# Altium footprint library Screw-M3.PcbLib: 37 footprints (part 1 of 3)
Each footprint in its own frame and in the unit in brackets; x right, y up, seen from the top. Pads: shape width x height; smd on the part's side, far side on the other; paste and mask are expansions set on the pad; w line width, h text height; cw(c..) or ccw(c..) is an arc to the next point about the centre after c.
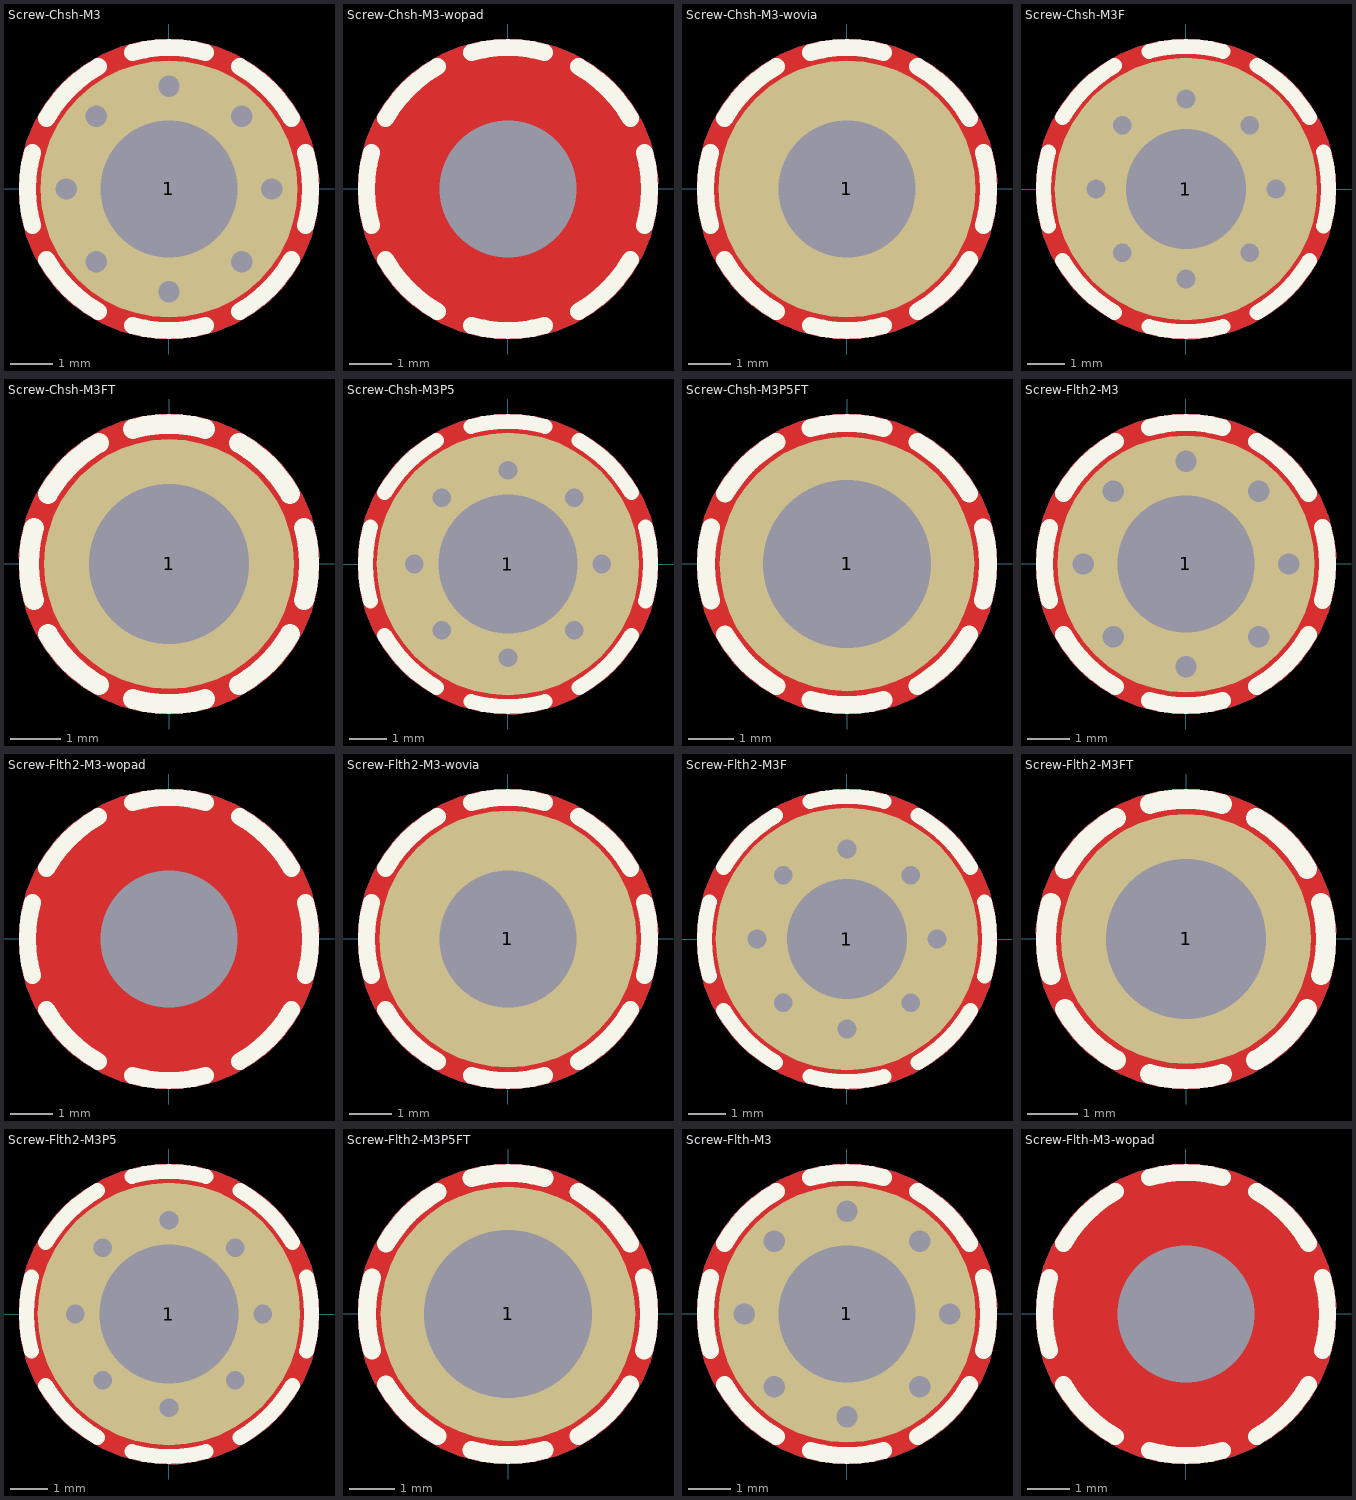
[diagram p0: the footprints below, top view; thin cyan lines are the x and y axes]

## Screw-Chsh-M3 [mm] "Screw, hole diameter 3.2mm, PanHead 6mm"
pads (1):
  round 6 / inner round 3.5 / far side round 6 hole 3.2 mask+0.1: 1(0,0)
via -1.697,-1.697 diameter 0.8 hole 0.5
via 1.697,1.697 diameter 0.8 hole 0.5
via -2.4,0 diameter 0.8 hole 0.5
via 2.4,0 diameter 0.8 hole 0.5
via -1.697,1.697 diameter 0.8 hole 0.5
via 1.697,-1.697 diameter 0.8 hole 0.5
via 0,-2.4 diameter 0.8 hole 0.5
via 0,2.4 diameter 0.8 hole 0.5
Top Layer:
  pour cut-out: 0,3.5 -0.229,3.5 -0.684,3.44 -1.127,3.321 -1.551,3.146 -1.949,2.916 -2.313,2.637 -2.637,2.313 -2.916,1.949 -3.146,1.551 -3.321,1.127 -3.44,0.684 -3.5,0.229 -3.5,0 -3.5,-0.229 -3.44,-0.684 -3.321,-1.127 -3.146,-1.551 -2.916,-1.949 -2.637,-2.313 -2.313,-2.637 -1.949,-2.916 -1.551,-3.146 -1.127,-3.321 -0.684,-3.44 -0.229,-3.5 0,-3.5 0.229,-3.5 0.684,-3.44 1.127,-3.321 1.551,-3.146 1.949,-2.916 2.313,-2.637 2.637,-2.313 2.916,-1.949 3.146,-1.551 3.321,-1.127 3.44,-0.684 3.5,-0.229 3.5,0 3.5,0.229 3.44,0.684 3.321,1.127 3.146,1.551 2.916,1.949 2.637,2.313 2.313,2.637 1.949,2.916 1.551,3.146 1.127,3.321 0.684,3.44 0.229,3.5
Bottom Layer:
  pour cut-out: 0,3.5 -0.229,3.5 -0.684,3.44 -1.127,3.321 -1.551,3.146 -1.949,2.916 -2.313,2.637 -2.637,2.313 -2.916,1.949 -3.146,1.551 -3.321,1.127 -3.44,0.684 -3.5,0.229 -3.5,0 -3.5,-0.229 -3.44,-0.684 -3.321,-1.127 -3.146,-1.551 -2.916,-1.949 -2.637,-2.313 -2.313,-2.637 -1.949,-2.916 -1.551,-3.146 -1.127,-3.321 -0.684,-3.44 -0.229,-3.5 0,-3.5 0.229,-3.5 0.684,-3.44 1.127,-3.321 1.551,-3.146 1.949,-2.916 2.313,-2.637 2.637,-2.313 2.916,-1.949 3.146,-1.551 3.321,-1.127 3.44,-0.684 3.5,-0.229 3.5,0 3.5,0.229 3.44,0.684 3.321,1.127 3.146,1.551 2.916,1.949 2.637,2.313 2.313,2.637 1.949,2.916 1.551,3.146 1.127,3.321 0.684,3.44 0.229,3.5
Top Overlay:
  lines w0.4: -3.188,-0.854 cw(c0,0) -3.188,0.854 ; -2.858,-1.65 ccw(c0,0) -1.65,-2.858 ; -2.858,1.65 cw(c0,0) -1.65,2.858 ; -0.854,-3.188 ccw(c0,0) 0.854,-3.188 ; -0.854,3.188 cw(c0,0) 0.854,3.188 ; 1.65,-2.858 ccw(c0,0) 2.858,-1.65 ; 1.65,2.858 cw(c0,0) 2.858,1.65 ; 3.188,-0.854 ccw(c0,0) 3.188,0.854
3D body "SCRW_CHSH_PHLIPS_M3X5.stp": height 2.53, standoff -4.8, extent -3,-3 3,3

## Screw-Chsh-M3-wopad [mm] "Screw, hole diameter 3.2mm, PanHead 0mm"
pads (1):
  round 0 hole 3.2 unplated mask+0.1: 1(0,0)
Top Layer:
  pour cut-out: 0,3.5 -0.229,3.5 -0.684,3.44 -1.127,3.321 -1.551,3.146 -1.949,2.916 -2.313,2.637 -2.637,2.313 -2.916,1.949 -3.146,1.551 -3.321,1.127 -3.44,0.684 -3.5,0.229 -3.5,0 -3.5,-0.229 -3.44,-0.684 -3.321,-1.127 -3.146,-1.551 -2.916,-1.949 -2.637,-2.313 -2.313,-2.637 -1.949,-2.916 -1.551,-3.146 -1.127,-3.321 -0.684,-3.44 -0.229,-3.5 0,-3.5 0.229,-3.5 0.684,-3.44 1.127,-3.321 1.551,-3.146 1.949,-2.916 2.313,-2.637 2.637,-2.313 2.916,-1.949 3.146,-1.551 3.321,-1.127 3.44,-0.684 3.5,-0.229 3.5,0 3.5,0.229 3.44,0.684 3.321,1.127 3.146,1.551 2.916,1.949 2.637,2.313 2.313,2.637 1.949,2.916 1.551,3.146 1.127,3.321 0.684,3.44 0.229,3.5
Bottom Layer:
  pour cut-out: 0,3.5 -0.229,3.5 -0.684,3.44 -1.127,3.321 -1.551,3.146 -1.949,2.916 -2.313,2.637 -2.637,2.313 -2.916,1.949 -3.146,1.551 -3.321,1.127 -3.44,0.684 -3.5,0.229 -3.5,0 -3.5,-0.229 -3.44,-0.684 -3.321,-1.127 -3.146,-1.551 -2.916,-1.949 -2.637,-2.313 -2.313,-2.637 -1.949,-2.916 -1.551,-3.146 -1.127,-3.321 -0.684,-3.44 -0.229,-3.5 0,-3.5 0.229,-3.5 0.684,-3.44 1.127,-3.321 1.551,-3.146 1.949,-2.916 2.313,-2.637 2.637,-2.313 2.916,-1.949 3.146,-1.551 3.321,-1.127 3.44,-0.684 3.5,-0.229 3.5,0 3.5,0.229 3.44,0.684 3.321,1.127 3.146,1.551 2.916,1.949 2.637,2.313 2.313,2.637 1.949,2.916 1.551,3.146 1.127,3.321 0.684,3.44 0.229,3.5
Top Overlay:
  lines w0.4: -3.188,-0.854 cw(c0,0) -3.188,0.854 ; -2.858,-1.65 ccw(c0,0) -1.65,-2.858 ; -2.858,1.65 cw(c0,0) -1.65,2.858 ; -0.854,-3.188 ccw(c0,0) 0.854,-3.188 ; -0.854,3.188 cw(c0,0) 0.854,3.188 ; 1.65,-2.858 ccw(c0,0) 2.858,-1.65 ; 1.65,2.858 cw(c0,0) 2.858,1.65 ; 3.188,-0.854 ccw(c0,0) 3.188,0.854
3D body "SCRW_CHSH_PHLIPS_M3X5.stp": height 2.53, standoff -4.8, extent -3,-3 3,3

## Screw-Chsh-M3-wovia [mm] "Screw, hole diameter 3.2mm, PanHead 6mm"
pads (1):
  round 6 / inner round 3.5 / far side round 6 hole 3.2 mask+0.1: 1(0,0)
Top Layer:
  pour cut-out: 0,3.5 -0.229,3.5 -0.684,3.44 -1.127,3.321 -1.551,3.146 -1.949,2.916 -2.313,2.637 -2.637,2.313 -2.916,1.949 -3.146,1.551 -3.321,1.127 -3.44,0.684 -3.5,0.229 -3.5,0 -3.5,-0.229 -3.44,-0.684 -3.321,-1.127 -3.146,-1.551 -2.916,-1.949 -2.637,-2.313 -2.313,-2.637 -1.949,-2.916 -1.551,-3.146 -1.127,-3.321 -0.684,-3.44 -0.229,-3.5 0,-3.5 0.229,-3.5 0.684,-3.44 1.127,-3.321 1.551,-3.146 1.949,-2.916 2.313,-2.637 2.637,-2.313 2.916,-1.949 3.146,-1.551 3.321,-1.127 3.44,-0.684 3.5,-0.229 3.5,0 3.5,0.229 3.44,0.684 3.321,1.127 3.146,1.551 2.916,1.949 2.637,2.313 2.313,2.637 1.949,2.916 1.551,3.146 1.127,3.321 0.684,3.44 0.229,3.5
Bottom Layer:
  pour cut-out: 0,3.5 -0.229,3.5 -0.684,3.44 -1.127,3.321 -1.551,3.146 -1.949,2.916 -2.313,2.637 -2.637,2.313 -2.916,1.949 -3.146,1.551 -3.321,1.127 -3.44,0.684 -3.5,0.229 -3.5,0 -3.5,-0.229 -3.44,-0.684 -3.321,-1.127 -3.146,-1.551 -2.916,-1.949 -2.637,-2.313 -2.313,-2.637 -1.949,-2.916 -1.551,-3.146 -1.127,-3.321 -0.684,-3.44 -0.229,-3.5 0,-3.5 0.229,-3.5 0.684,-3.44 1.127,-3.321 1.551,-3.146 1.949,-2.916 2.313,-2.637 2.637,-2.313 2.916,-1.949 3.146,-1.551 3.321,-1.127 3.44,-0.684 3.5,-0.229 3.5,0 3.5,0.229 3.44,0.684 3.321,1.127 3.146,1.551 2.916,1.949 2.637,2.313 2.313,2.637 1.949,2.916 1.551,3.146 1.127,3.321 0.684,3.44 0.229,3.5
Top Overlay:
  lines w0.4: -3.188,-0.854 cw(c0,0) -3.188,0.854 ; -2.858,-1.65 ccw(c0,0) -1.65,-2.858 ; -2.858,1.65 cw(c0,0) -1.65,2.858 ; -0.854,-3.188 ccw(c0,0) 0.854,-3.188 ; -0.854,3.188 cw(c0,0) 0.854,3.188 ; 1.65,-2.858 ccw(c0,0) 2.858,-1.65 ; 1.65,2.858 cw(c0,0) 2.858,1.65 ; 3.188,-0.854 ccw(c0,0) 3.188,0.854
3D body "SCRW_CHSH_PHLIPS_M3X5.stp": height 2.53, standoff -4.8, extent -3,-3 3,3

## Screw-Chsh-M3F [mm] "Screw, hole diameter 3.2mm, PanHead 7mm"
pads (1):
  round 7 / inner round 3.5 / far side round 7 hole 3.2 mask+0.1: 1(0,0)
via 0,2.4 diameter 0.8 hole 0.5
via 0,-2.4 diameter 0.8 hole 0.5
via 1.697,-1.697 diameter 0.8 hole 0.5
via -1.697,1.697 diameter 0.8 hole 0.5
via 2.4,0 diameter 0.8 hole 0.5
via -2.4,0 diameter 0.8 hole 0.5
via 1.697,1.697 diameter 0.8 hole 0.5
via -1.697,-1.697 diameter 0.8 hole 0.5
Top Layer:
  pour cut-out: 0,4 -0.262,4 -0.782,3.932 -1.288,3.796 -1.773,3.595 -2.227,3.333 -2.643,3.014 -3.014,2.643 -3.333,2.227 -3.595,1.773 -3.796,1.289 -3.931,0.782 -4,0.262 -4,0 -4,-0.262 -3.931,-0.782 -3.796,-1.288 -3.595,-1.773 -3.333,-2.227 -3.014,-2.643 -2.643,-3.014 -2.227,-3.333 -1.773,-3.595 -1.288,-3.796 -0.782,-3.931 -0.262,-4 0,-4 0.262,-4 0.782,-3.932 1.289,-3.796 1.773,-3.595 2.227,-3.333 2.643,-3.014 3.014,-2.643 3.333,-2.227 3.595,-1.773 3.796,-1.289 3.932,-0.782 4,-0.262 4,0 4,0.262 3.932,0.782 3.796,1.289 3.595,1.773 3.333,2.227 3.014,2.643 2.643,3.014 2.227,3.333 1.773,3.595 1.289,3.796 0.782,3.932 0.262,4
Bottom Layer:
  pour cut-out: 0,4 -0.262,4 -0.782,3.932 -1.288,3.796 -1.773,3.595 -2.227,3.333 -2.643,3.014 -3.014,2.643 -3.333,2.227 -3.595,1.773 -3.796,1.289 -3.931,0.782 -4,0.262 -4,0 -4,-0.262 -3.931,-0.782 -3.796,-1.288 -3.595,-1.773 -3.333,-2.227 -3.014,-2.643 -2.643,-3.014 -2.227,-3.333 -1.773,-3.595 -1.288,-3.796 -0.782,-3.931 -0.262,-4 0,-4 0.262,-4 0.782,-3.932 1.289,-3.796 1.773,-3.595 2.227,-3.333 2.643,-3.014 3.014,-2.643 3.333,-2.227 3.595,-1.773 3.796,-1.289 3.932,-0.782 4,-0.262 4,0 4,0.262 3.932,0.782 3.796,1.289 3.595,1.773 3.333,2.227 3.014,2.643 2.643,3.014 2.227,3.333 1.773,3.595 1.289,3.796 0.782,3.932 0.262,4
Top Overlay:
  lines w0.4: -3.671,-0.984 cw(c0,0) -3.671,0.984 ; -3.291,-1.9 ccw(c0,0) -1.9,-3.291 ; -3.291,1.9 cw(c0,0) -1.9,3.291 ; -0.984,-3.671 ccw(c0,0) 0.984,-3.671 ; -0.984,3.671 cw(c0,0) 0.984,3.671 ; 1.9,-3.291 ccw(c0,0) 3.291,-1.9 ; 1.9,3.291 cw(c0,0) 3.291,1.9 ; 3.671,-0.984 ccw(c0,0) 3.671,0.984
3D body "SCRW_CHSH_PHLIPS_M3X5.stp": height 2.53, standoff -4.8, extent -3,-3 3,3

## Screw-Chsh-M3FT [mm] "Screw, hole diameter 3.2mm, PanHead 5mm"
pads (1):
  round 5 / inner round 3.5 / far side round 5 hole 3.2 mask+0.1: 1(0,0)
Top Layer:
  pour cut-out: 0,3 -0.197,3 -0.587,2.949 -0.966,2.847 -1.33,2.696 -1.67,2.5 -1.982,2.26 -2.26,1.982 -2.5,1.67 -2.696,1.33 -2.847,0.966 -2.949,0.587 -3,0.197 -3,0 -3,-0.197 -2.949,-0.587 -2.847,-0.966 -2.696,-1.33 -2.5,-1.67 -2.26,-1.982 -1.982,-2.26 -1.67,-2.5 -1.33,-2.696 -0.966,-2.847 -0.587,-2.949 -0.197,-3 0,-3 0.197,-3 0.587,-2.949 0.966,-2.847 1.33,-2.696 1.67,-2.5 1.982,-2.26 2.26,-1.982 2.5,-1.67 2.696,-1.33 2.847,-0.966 2.949,-0.587 3,-0.197 3,0 3,0.197 2.949,0.587 2.847,0.966 2.696,1.33 2.5,1.67 2.26,1.982 1.982,2.26 1.67,2.5 1.33,2.696 0.966,2.847 0.587,2.949 0.197,3
Bottom Layer:
  pour cut-out: 0,3 -0.197,3 -0.587,2.949 -0.966,2.847 -1.33,2.696 -1.67,2.5 -1.982,2.26 -2.26,1.982 -2.5,1.67 -2.696,1.33 -2.847,0.966 -2.949,0.587 -3,0.197 -3,0 -3,-0.197 -2.949,-0.587 -2.847,-0.966 -2.696,-1.33 -2.5,-1.67 -2.26,-1.982 -1.982,-2.26 -1.67,-2.5 -1.33,-2.696 -0.966,-2.847 -0.587,-2.949 -0.197,-3 0,-3 0.197,-3 0.587,-2.949 0.966,-2.847 1.33,-2.696 1.67,-2.5 1.982,-2.26 2.26,-1.982 2.5,-1.67 2.696,-1.33 2.847,-0.966 2.949,-0.587 3,-0.197 3,0 3,0.197 2.949,0.587 2.847,0.966 2.696,1.33 2.5,1.67 2.26,1.982 1.982,2.26 1.67,2.5 1.33,2.696 0.966,2.847 0.587,2.949 0.197,3
Top Overlay:
  lines w0.4: -2.705,-0.725 cw(c0,0) -2.705,0.725 ; -2.425,-1.4 ccw(c0,0) -1.4,-2.425 ; -2.425,1.4 cw(c0,0) -1.4,2.425 ; -0.725,-2.705 ccw(c0,0) 0.725,-2.705 ; -0.725,2.705 cw(c0,0) 0.725,2.705 ; 1.4,-2.425 ccw(c0,0) 2.425,-1.4 ; 1.4,2.425 cw(c0,0) 2.425,1.4 ; 2.705,-0.725 ccw(c0,0) 2.705,0.725
3D body "SCRW_CHSH_PHLIPS_M3X5.stp": height 2.53, standoff -4.8, extent -3,-3 3,3

## Screw-Chsh-M3P5 [mm] "Screw, hole diameter 3.7mm, PanHead 7mm"
pads (1):
  round 7 / inner round 4 / far side round 7 hole 3.7 mask+0.1: 1(0,0)
via 0,-2.5 diameter 0.8 hole 0.5
via 0,2.5 diameter 0.8 hole 0.5
via -1.768,1.768 diameter 0.8 hole 0.5
via 1.768,-1.768 diameter 0.8 hole 0.5
via -2.5,0 diameter 0.8 hole 0.5
via 2.5,0 diameter 0.8 hole 0.5
via -1.768,-1.768 diameter 0.8 hole 0.5
via 1.768,1.768 diameter 0.8 hole 0.5
Top Layer:
  pour cut-out: 0,4 -0.262,4 -0.782,3.932 -1.288,3.796 -1.773,3.595 -2.227,3.333 -2.643,3.014 -3.014,2.643 -3.333,2.227 -3.595,1.773 -3.796,1.289 -3.931,0.782 -4,0.262 -4,0 -4,-0.262 -3.931,-0.782 -3.796,-1.288 -3.595,-1.773 -3.333,-2.227 -3.014,-2.643 -2.643,-3.014 -2.227,-3.333 -1.773,-3.595 -1.288,-3.796 -0.782,-3.931 -0.262,-4 0,-4 0.262,-4 0.782,-3.932 1.289,-3.796 1.773,-3.595 2.227,-3.333 2.643,-3.014 3.014,-2.643 3.333,-2.227 3.595,-1.773 3.796,-1.289 3.932,-0.782 4,-0.262 4,0 4,0.262 3.932,0.782 3.796,1.289 3.595,1.773 3.333,2.227 3.014,2.643 2.643,3.014 2.227,3.333 1.773,3.595 1.289,3.796 0.782,3.932 0.262,4
Bottom Layer:
  pour cut-out: 0,4 -0.262,4 -0.782,3.932 -1.288,3.796 -1.773,3.595 -2.227,3.333 -2.643,3.014 -3.014,2.643 -3.333,2.227 -3.595,1.773 -3.796,1.289 -3.931,0.782 -4,0.262 -4,0 -4,-0.262 -3.931,-0.782 -3.796,-1.288 -3.595,-1.773 -3.333,-2.227 -3.014,-2.643 -2.643,-3.014 -2.227,-3.333 -1.773,-3.595 -1.288,-3.796 -0.782,-3.931 -0.262,-4 0,-4 0.262,-4 0.782,-3.932 1.289,-3.796 1.773,-3.595 2.227,-3.333 2.643,-3.014 3.014,-2.643 3.333,-2.227 3.595,-1.773 3.796,-1.289 3.932,-0.782 4,-0.262 4,0 4,0.262 3.932,0.782 3.796,1.289 3.595,1.773 3.333,2.227 3.014,2.643 2.643,3.014 2.227,3.333 1.773,3.595 1.289,3.796 0.782,3.932 0.262,4
Top Overlay:
  lines w0.4: -3.671,-0.984 cw(c0,0) -3.671,0.984 ; -3.291,-1.9 ccw(c0,0) -1.9,-3.291 ; -3.291,1.9 cw(c0,0) -1.9,3.291 ; -0.984,-3.671 ccw(c0,0) 0.984,-3.671 ; -0.984,3.671 cw(c0,0) 0.984,3.671 ; 1.9,-3.291 ccw(c0,0) 3.291,-1.9 ; 1.9,3.291 cw(c0,0) 3.291,1.9 ; 3.671,-0.984 ccw(c0,0) 3.671,0.984
3D body "SCRW_CHSH_PHLIPS_M3X5.stp": height 2.53, standoff -4.8, extent -3,-3 3,3

## Screw-Chsh-M3P5FT [mm] "Screw, hole diameter 3.7mm, PanHead 5.6mm"
pads (1):
  round 5.6 / inner round 4 / far side round 5.6 hole 3.7 mask+0.1: 1(0,0)
Top Layer:
  pour cut-out: 0,3.3 -0.216,3.3 -0.645,3.244 -1.063,3.132 -1.463,2.966 -1.837,2.75 -2.181,2.486 -2.486,2.181 -2.75,1.837 -2.966,1.463 -3.132,1.063 -3.244,0.645 -3.3,0.216 -3.3,0 -3.3,-0.216 -3.244,-0.645 -3.132,-1.063 -2.966,-1.463 -2.75,-1.837 -2.486,-2.181 -2.181,-2.486 -1.837,-2.75 -1.463,-2.966 -1.063,-3.132 -0.645,-3.244 -0.216,-3.3 0,-3.3 0.216,-3.3 0.645,-3.244 1.063,-3.132 1.463,-2.966 1.837,-2.75 2.18,-2.486 2.486,-2.181 2.75,-1.837 2.966,-1.463 3.132,-1.063 3.244,-0.645 3.3,-0.216 3.3,0 3.3,0.216 3.244,0.645 3.132,1.063 2.966,1.463 2.75,1.837 2.486,2.181 2.181,2.486 1.837,2.75 1.463,2.966 1.063,3.132 0.645,3.244 0.216,3.3
Bottom Layer:
  pour cut-out: 0,3.3 -0.216,3.3 -0.645,3.244 -1.063,3.132 -1.463,2.966 -1.837,2.75 -2.181,2.486 -2.486,2.181 -2.75,1.837 -2.966,1.463 -3.132,1.063 -3.244,0.645 -3.3,0.216 -3.3,0 -3.3,-0.216 -3.244,-0.645 -3.132,-1.063 -2.966,-1.463 -2.75,-1.837 -2.486,-2.181 -2.181,-2.486 -1.837,-2.75 -1.463,-2.966 -1.063,-3.132 -0.645,-3.244 -0.216,-3.3 0,-3.3 0.216,-3.3 0.645,-3.244 1.063,-3.132 1.463,-2.966 1.837,-2.75 2.18,-2.486 2.486,-2.181 2.75,-1.837 2.966,-1.463 3.132,-1.063 3.244,-0.645 3.3,-0.216 3.3,0 3.3,0.216 3.244,0.645 3.132,1.063 2.966,1.463 2.75,1.837 2.486,2.181 2.181,2.486 1.837,2.75 1.463,2.966 1.063,3.132 0.645,3.244 0.216,3.3
Top Overlay:
  lines w0.4: -2.994,-0.802 cw(c0,0) -2.994,0.802 ; -2.685,-1.55 ccw(c0,0) -1.55,-2.685 ; -2.685,1.55 cw(c0,0) -1.55,2.685 ; -0.802,-2.994 ccw(c0,0) 0.802,-2.994 ; -0.802,2.994 cw(c0,0) 0.802,2.994 ; 1.55,-2.685 ccw(c0,0) 2.685,-1.55 ; 1.55,2.685 cw(c0,0) 2.685,1.55 ; 2.994,-0.802 ccw(c0,0) 2.994,0.802
3D body "SCRW_CHSH_PHLIPS_M3X5.stp": height 2.53, standoff -4.8, extent -3,-3 3,3

## Screw-Flth2-M3 [mm] "Screw, hole diameter 3.2mm, PanHead 6mm"
pads (1):
  round 6 / inner round 3.5 / far side round 6 hole 3.2 mask+0.1: 1(0,0)
via -1.697,-1.697 diameter 0.8 hole 0.5
via 1.697,1.697 diameter 0.8 hole 0.5
via -2.4,0 diameter 0.8 hole 0.5
via 2.4,0 diameter 0.8 hole 0.5
via -1.697,1.697 diameter 0.8 hole 0.5
via 1.697,-1.697 diameter 0.8 hole 0.5
via 0,-2.4 diameter 0.8 hole 0.5
via 0,2.4 diameter 0.8 hole 0.5
Top Layer:
  pour cut-out: 0,3.5 -0.229,3.5 -0.684,3.44 -1.127,3.321 -1.551,3.146 -1.949,2.916 -2.313,2.637 -2.637,2.313 -2.916,1.949 -3.146,1.551 -3.321,1.127 -3.44,0.684 -3.5,0.229 -3.5,0 -3.5,-0.229 -3.44,-0.684 -3.321,-1.127 -3.146,-1.551 -2.916,-1.949 -2.637,-2.313 -2.313,-2.637 -1.949,-2.916 -1.551,-3.146 -1.127,-3.321 -0.684,-3.44 -0.229,-3.5 0,-3.5 0.229,-3.5 0.684,-3.44 1.127,-3.321 1.551,-3.146 1.949,-2.916 2.313,-2.637 2.637,-2.313 2.916,-1.949 3.146,-1.551 3.321,-1.127 3.44,-0.684 3.5,-0.229 3.5,0 3.5,0.229 3.44,0.684 3.321,1.127 3.146,1.551 2.916,1.949 2.637,2.313 2.313,2.637 1.949,2.916 1.551,3.146 1.127,3.321 0.684,3.44 0.229,3.5
Bottom Layer:
  pour cut-out: 0,3.5 -0.229,3.5 -0.684,3.44 -1.127,3.321 -1.551,3.146 -1.949,2.916 -2.313,2.637 -2.637,2.313 -2.916,1.949 -3.146,1.551 -3.321,1.127 -3.44,0.684 -3.5,0.229 -3.5,0 -3.5,-0.229 -3.44,-0.684 -3.321,-1.127 -3.146,-1.551 -2.916,-1.949 -2.637,-2.313 -2.313,-2.637 -1.949,-2.916 -1.551,-3.146 -1.127,-3.321 -0.684,-3.44 -0.229,-3.5 0,-3.5 0.229,-3.5 0.684,-3.44 1.127,-3.321 1.551,-3.146 1.949,-2.916 2.313,-2.637 2.637,-2.313 2.916,-1.949 3.146,-1.551 3.321,-1.127 3.44,-0.684 3.5,-0.229 3.5,0 3.5,0.229 3.44,0.684 3.321,1.127 3.146,1.551 2.916,1.949 2.637,2.313 2.313,2.637 1.949,2.916 1.551,3.146 1.127,3.321 0.684,3.44 0.229,3.5
Top Overlay:
  lines w0.4: -3.188,-0.854 cw(c0,0) -3.188,0.854 ; -2.858,-1.65 ccw(c0,0) -1.65,-2.858 ; -2.858,1.65 cw(c0,0) -1.65,2.858 ; -0.854,-3.188 ccw(c0,0) 0.854,-3.188 ; -0.854,3.188 cw(c0,0) 0.854,3.188 ; 1.65,-2.858 ccw(c0,0) 2.858,-1.65 ; 1.65,2.858 cw(c0,0) 2.858,1.65 ; 3.188,-0.854 ccw(c0,0) 3.188,0.854
3D body "screw_iso7046-1-m3_5x5-4_8-h.stp": height 2.7, standoff -2.3, extent -3.65,-3.65 3.65,3.65

## Screw-Flth2-M3-wopad [mm] "Screw, hole diameter 3.2mm, PanHead 0mm"
pads (1):
  round 0 hole 3.2 unplated mask+0.1: 1(0,0)
Top Layer:
  pour cut-out: 0,3.5 -0.229,3.5 -0.684,3.44 -1.127,3.321 -1.551,3.146 -1.949,2.916 -2.313,2.637 -2.637,2.313 -2.916,1.949 -3.146,1.551 -3.321,1.127 -3.44,0.684 -3.5,0.229 -3.5,0 -3.5,-0.229 -3.44,-0.684 -3.321,-1.127 -3.146,-1.551 -2.916,-1.949 -2.637,-2.313 -2.313,-2.637 -1.949,-2.916 -1.551,-3.146 -1.127,-3.321 -0.684,-3.44 -0.229,-3.5 0,-3.5 0.229,-3.5 0.684,-3.44 1.127,-3.321 1.551,-3.146 1.949,-2.916 2.313,-2.637 2.637,-2.313 2.916,-1.949 3.146,-1.551 3.321,-1.127 3.44,-0.684 3.5,-0.229 3.5,0 3.5,0.229 3.44,0.684 3.321,1.127 3.146,1.551 2.916,1.949 2.637,2.313 2.313,2.637 1.949,2.916 1.551,3.146 1.127,3.321 0.684,3.44 0.229,3.5
Bottom Layer:
  pour cut-out: 0,3.5 -0.229,3.5 -0.684,3.44 -1.127,3.321 -1.551,3.146 -1.949,2.916 -2.313,2.637 -2.637,2.313 -2.916,1.949 -3.146,1.551 -3.321,1.127 -3.44,0.684 -3.5,0.229 -3.5,0 -3.5,-0.229 -3.44,-0.684 -3.321,-1.127 -3.146,-1.551 -2.916,-1.949 -2.637,-2.313 -2.313,-2.637 -1.949,-2.916 -1.551,-3.146 -1.127,-3.321 -0.684,-3.44 -0.229,-3.5 0,-3.5 0.229,-3.5 0.684,-3.44 1.127,-3.321 1.551,-3.146 1.949,-2.916 2.313,-2.637 2.637,-2.313 2.916,-1.949 3.146,-1.551 3.321,-1.127 3.44,-0.684 3.5,-0.229 3.5,0 3.5,0.229 3.44,0.684 3.321,1.127 3.146,1.551 2.916,1.949 2.637,2.313 2.313,2.637 1.949,2.916 1.551,3.146 1.127,3.321 0.684,3.44 0.229,3.5
Top Overlay:
  lines w0.4: -3.188,-0.854 cw(c0,0) -3.188,0.854 ; -2.858,-1.65 ccw(c0,0) -1.65,-2.858 ; -2.858,1.65 cw(c0,0) -1.65,2.858 ; -0.854,-3.188 ccw(c0,0) 0.854,-3.188 ; -0.854,3.188 cw(c0,0) 0.854,3.188 ; 1.65,-2.858 ccw(c0,0) 2.858,-1.65 ; 1.65,2.858 cw(c0,0) 2.858,1.65 ; 3.188,-0.854 ccw(c0,0) 3.188,0.854
3D body "screw_iso7046-1-m3_5x5-4_8-h.stp": height 2.7, standoff -2.3, extent -3.65,-3.65 3.65,3.65

## Screw-Flth2-M3-wovia [mm] "Screw, hole diameter 3.2mm, PanHead 6mm"
pads (1):
  round 6 / inner round 3.5 / far side round 6 hole 3.2 mask+0.1: 1(0,0)
Top Layer:
  pour cut-out: 0,3.5 -0.229,3.5 -0.684,3.44 -1.127,3.321 -1.551,3.146 -1.949,2.916 -2.313,2.637 -2.637,2.313 -2.916,1.949 -3.146,1.551 -3.321,1.127 -3.44,0.684 -3.5,0.229 -3.5,0 -3.5,-0.229 -3.44,-0.684 -3.321,-1.127 -3.146,-1.551 -2.916,-1.949 -2.637,-2.313 -2.313,-2.637 -1.949,-2.916 -1.551,-3.146 -1.127,-3.321 -0.684,-3.44 -0.229,-3.5 0,-3.5 0.229,-3.5 0.684,-3.44 1.127,-3.321 1.551,-3.146 1.949,-2.916 2.313,-2.637 2.637,-2.313 2.916,-1.949 3.146,-1.551 3.321,-1.127 3.44,-0.684 3.5,-0.229 3.5,0 3.5,0.229 3.44,0.684 3.321,1.127 3.146,1.551 2.916,1.949 2.637,2.313 2.313,2.637 1.949,2.916 1.551,3.146 1.127,3.321 0.684,3.44 0.229,3.5
Bottom Layer:
  pour cut-out: 0,3.5 -0.229,3.5 -0.684,3.44 -1.127,3.321 -1.551,3.146 -1.949,2.916 -2.313,2.637 -2.637,2.313 -2.916,1.949 -3.146,1.551 -3.321,1.127 -3.44,0.684 -3.5,0.229 -3.5,0 -3.5,-0.229 -3.44,-0.684 -3.321,-1.127 -3.146,-1.551 -2.916,-1.949 -2.637,-2.313 -2.313,-2.637 -1.949,-2.916 -1.551,-3.146 -1.127,-3.321 -0.684,-3.44 -0.229,-3.5 0,-3.5 0.229,-3.5 0.684,-3.44 1.127,-3.321 1.551,-3.146 1.949,-2.916 2.313,-2.637 2.637,-2.313 2.916,-1.949 3.146,-1.551 3.321,-1.127 3.44,-0.684 3.5,-0.229 3.5,0 3.5,0.229 3.44,0.684 3.321,1.127 3.146,1.551 2.916,1.949 2.637,2.313 2.313,2.637 1.949,2.916 1.551,3.146 1.127,3.321 0.684,3.44 0.229,3.5
Top Overlay:
  lines w0.4: -3.188,-0.854 cw(c0,0) -3.188,0.854 ; -2.858,-1.65 ccw(c0,0) -1.65,-2.858 ; -2.858,1.65 cw(c0,0) -1.65,2.858 ; -0.854,-3.188 ccw(c0,0) 0.854,-3.188 ; -0.854,3.188 cw(c0,0) 0.854,3.188 ; 1.65,-2.858 ccw(c0,0) 2.858,-1.65 ; 1.65,2.858 cw(c0,0) 2.858,1.65 ; 3.188,-0.854 ccw(c0,0) 3.188,0.854
3D body "screw_iso7046-1-m3_5x5-4_8-h.stp": height 2.7, standoff -2.3, extent -3.65,-3.65 3.65,3.65

## Screw-Flth2-M3F [mm] "Screw, hole diameter 3.2mm, PanHead 7mm"
pads (1):
  round 7 / inner round 3.5 / far side round 7 hole 3.2 mask+0.1: 1(0,0)
via 0,2.4 diameter 0.8 hole 0.5
via 0,-2.4 diameter 0.8 hole 0.5
via 1.697,-1.697 diameter 0.8 hole 0.5
via -1.697,1.697 diameter 0.8 hole 0.5
via 2.4,0 diameter 0.8 hole 0.5
via -2.4,0 diameter 0.8 hole 0.5
via 1.697,1.697 diameter 0.8 hole 0.5
via -1.697,-1.697 diameter 0.8 hole 0.5
Top Layer:
  pour cut-out: 0,4 -0.262,4 -0.782,3.932 -1.288,3.796 -1.773,3.595 -2.227,3.333 -2.643,3.014 -3.014,2.643 -3.333,2.227 -3.595,1.773 -3.796,1.289 -3.931,0.782 -4,0.262 -4,0 -4,-0.262 -3.931,-0.782 -3.796,-1.288 -3.595,-1.773 -3.333,-2.227 -3.014,-2.643 -2.643,-3.014 -2.227,-3.333 -1.773,-3.595 -1.288,-3.796 -0.782,-3.931 -0.262,-4 0,-4 0.262,-4 0.782,-3.932 1.289,-3.796 1.773,-3.595 2.227,-3.333 2.643,-3.014 3.014,-2.643 3.333,-2.227 3.595,-1.773 3.796,-1.289 3.932,-0.782 4,-0.262 4,0 4,0.262 3.932,0.782 3.796,1.289 3.595,1.773 3.333,2.227 3.014,2.643 2.643,3.014 2.227,3.333 1.773,3.595 1.289,3.796 0.782,3.932 0.262,4
Bottom Layer:
  pour cut-out: 0,4 -0.262,4 -0.782,3.932 -1.288,3.796 -1.773,3.595 -2.227,3.333 -2.643,3.014 -3.014,2.643 -3.333,2.227 -3.595,1.773 -3.796,1.289 -3.931,0.782 -4,0.262 -4,0 -4,-0.262 -3.931,-0.782 -3.796,-1.288 -3.595,-1.773 -3.333,-2.227 -3.014,-2.643 -2.643,-3.014 -2.227,-3.333 -1.773,-3.595 -1.288,-3.796 -0.782,-3.931 -0.262,-4 0,-4 0.262,-4 0.782,-3.932 1.289,-3.796 1.773,-3.595 2.227,-3.333 2.643,-3.014 3.014,-2.643 3.333,-2.227 3.595,-1.773 3.796,-1.289 3.932,-0.782 4,-0.262 4,0 4,0.262 3.932,0.782 3.796,1.289 3.595,1.773 3.333,2.227 3.014,2.643 2.643,3.014 2.227,3.333 1.773,3.595 1.289,3.796 0.782,3.932 0.262,4
Top Overlay:
  lines w0.4: -3.671,-0.984 cw(c0,0) -3.671,0.984 ; -3.291,-1.9 ccw(c0,0) -1.9,-3.291 ; -3.291,1.9 cw(c0,0) -1.9,3.291 ; -0.984,-3.671 ccw(c0,0) 0.984,-3.671 ; -0.984,3.671 cw(c0,0) 0.984,3.671 ; 1.9,-3.291 ccw(c0,0) 3.291,-1.9 ; 1.9,3.291 cw(c0,0) 3.291,1.9 ; 3.671,-0.984 ccw(c0,0) 3.671,0.984
3D body "screw_iso7046-1-m3_5x5-4_8-h.stp": height 2.7, standoff -2.3, extent -3.65,-3.65 3.65,3.65

## Screw-Flth2-M3FT [mm] "Screw, hole diameter 3.2mm, PanHead 5mm"
pads (1):
  round 5 / inner round 3.5 / far side round 5 hole 3.2 mask+0.1: 1(0,0)
Top Layer:
  pour cut-out: 0,3 -0.197,3 -0.587,2.949 -0.966,2.847 -1.33,2.696 -1.67,2.5 -1.982,2.26 -2.26,1.982 -2.5,1.67 -2.696,1.33 -2.847,0.966 -2.949,0.587 -3,0.197 -3,0 -3,-0.197 -2.949,-0.587 -2.847,-0.966 -2.696,-1.33 -2.5,-1.67 -2.26,-1.982 -1.982,-2.26 -1.67,-2.5 -1.33,-2.696 -0.966,-2.847 -0.587,-2.949 -0.197,-3 0,-3 0.197,-3 0.587,-2.949 0.966,-2.847 1.33,-2.696 1.67,-2.5 1.982,-2.26 2.26,-1.982 2.5,-1.67 2.696,-1.33 2.847,-0.966 2.949,-0.587 3,-0.197 3,0 3,0.197 2.949,0.587 2.847,0.966 2.696,1.33 2.5,1.67 2.26,1.982 1.982,2.26 1.67,2.5 1.33,2.696 0.966,2.847 0.587,2.949 0.197,3
Bottom Layer:
  pour cut-out: 0,3 -0.197,3 -0.587,2.949 -0.966,2.847 -1.33,2.696 -1.67,2.5 -1.982,2.26 -2.26,1.982 -2.5,1.67 -2.696,1.33 -2.847,0.966 -2.949,0.587 -3,0.197 -3,0 -3,-0.197 -2.949,-0.587 -2.847,-0.966 -2.696,-1.33 -2.5,-1.67 -2.26,-1.982 -1.982,-2.26 -1.67,-2.5 -1.33,-2.696 -0.966,-2.847 -0.587,-2.949 -0.197,-3 0,-3 0.197,-3 0.587,-2.949 0.966,-2.847 1.33,-2.696 1.67,-2.5 1.982,-2.26 2.26,-1.982 2.5,-1.67 2.696,-1.33 2.847,-0.966 2.949,-0.587 3,-0.197 3,0 3,0.197 2.949,0.587 2.847,0.966 2.696,1.33 2.5,1.67 2.26,1.982 1.982,2.26 1.67,2.5 1.33,2.696 0.966,2.847 0.587,2.949 0.197,3
Top Overlay:
  lines w0.4: -2.705,-0.725 cw(c0,0) -2.705,0.725 ; -2.425,-1.4 ccw(c0,0) -1.4,-2.425 ; -2.425,1.4 cw(c0,0) -1.4,2.425 ; -0.725,-2.705 ccw(c0,0) 0.725,-2.705 ; -0.725,2.705 cw(c0,0) 0.725,2.705 ; 1.4,-2.425 ccw(c0,0) 2.425,-1.4 ; 1.4,2.425 cw(c0,0) 2.425,1.4 ; 2.705,-0.725 ccw(c0,0) 2.705,0.725
3D body "screw_iso7046-1-m3_5x5-4_8-h.stp": height 2.7, standoff -2.3, extent -3.65,-3.65 3.65,3.65

## Screw-Flth2-M3P5 [mm] "Screw, hole diameter 3.7mm, PanHead 7mm"
pads (1):
  round 7 / inner round 4 / far side round 7 hole 3.7 mask+0.1: 1(0,0)
via 1.768,1.768 diameter 0.8 hole 0.5
via -1.768,-1.768 diameter 0.8 hole 0.5
via 2.5,0 diameter 0.8 hole 0.5
via -2.5,0 diameter 0.8 hole 0.5
via 1.768,-1.768 diameter 0.8 hole 0.5
via -1.768,1.768 diameter 0.8 hole 0.5
via 0,2.5 diameter 0.8 hole 0.5
via 0,-2.5 diameter 0.8 hole 0.5
Top Layer:
  pour cut-out: 0,4 -0.262,4 -0.782,3.932 -1.288,3.796 -1.773,3.595 -2.227,3.333 -2.643,3.014 -3.014,2.643 -3.333,2.227 -3.595,1.773 -3.796,1.289 -3.931,0.782 -4,0.262 -4,0 -4,-0.262 -3.931,-0.782 -3.796,-1.288 -3.595,-1.773 -3.333,-2.227 -3.014,-2.643 -2.643,-3.014 -2.227,-3.333 -1.773,-3.595 -1.288,-3.796 -0.782,-3.931 -0.262,-4 0,-4 0.262,-4 0.782,-3.932 1.289,-3.796 1.773,-3.595 2.227,-3.333 2.643,-3.014 3.014,-2.643 3.333,-2.227 3.595,-1.773 3.796,-1.289 3.932,-0.782 4,-0.262 4,0 4,0.262 3.932,0.782 3.796,1.289 3.595,1.773 3.333,2.227 3.014,2.643 2.643,3.014 2.227,3.333 1.773,3.595 1.289,3.796 0.782,3.932 0.262,4
Bottom Layer:
  pour cut-out: 0,4 -0.262,4 -0.782,3.932 -1.288,3.796 -1.773,3.595 -2.227,3.333 -2.643,3.014 -3.014,2.643 -3.333,2.227 -3.595,1.773 -3.796,1.289 -3.931,0.782 -4,0.262 -4,0 -4,-0.262 -3.931,-0.782 -3.796,-1.288 -3.595,-1.773 -3.333,-2.227 -3.014,-2.643 -2.643,-3.014 -2.227,-3.333 -1.773,-3.595 -1.288,-3.796 -0.782,-3.931 -0.262,-4 0,-4 0.262,-4 0.782,-3.932 1.289,-3.796 1.773,-3.595 2.227,-3.333 2.643,-3.014 3.014,-2.643 3.333,-2.227 3.595,-1.773 3.796,-1.289 3.932,-0.782 4,-0.262 4,0 4,0.262 3.932,0.782 3.796,1.289 3.595,1.773 3.333,2.227 3.014,2.643 2.643,3.014 2.227,3.333 1.773,3.595 1.289,3.796 0.782,3.932 0.262,4
Top Overlay:
  lines w0.4: -3.671,-0.984 cw(c0,0) -3.671,0.984 ; -3.291,-1.9 ccw(c0,0) -1.9,-3.291 ; -3.291,1.9 cw(c0,0) -1.9,3.291 ; -0.984,-3.671 ccw(c0,0) 0.984,-3.671 ; -0.984,3.671 cw(c0,0) 0.984,3.671 ; 1.9,-3.291 ccw(c0,0) 3.291,-1.9 ; 1.9,3.291 cw(c0,0) 3.291,1.9 ; 3.671,-0.984 ccw(c0,0) 3.671,0.984
3D body "screw_iso7046-1-m3_5x5-4_8-h.stp": height 2.7, standoff -2.3, extent -3.65,-3.65 3.65,3.65

## Screw-Flth2-M3P5FT [mm] "Screw, hole diameter 3.7mm, PanHead 5.6mm,"
pads (1):
  round 5.6 / inner round 4 / far side round 5.6 hole 3.7 mask+0.1: 1(0,0)
Top Layer:
  pour cut-out: 0,3.3 -0.216,3.3 -0.645,3.244 -1.063,3.132 -1.463,2.966 -1.837,2.75 -2.181,2.486 -2.486,2.181 -2.75,1.837 -2.966,1.463 -3.132,1.063 -3.244,0.645 -3.3,0.216 -3.3,0 -3.3,-0.216 -3.244,-0.645 -3.132,-1.063 -2.966,-1.463 -2.75,-1.837 -2.486,-2.181 -2.181,-2.486 -1.837,-2.75 -1.463,-2.966 -1.063,-3.132 -0.645,-3.244 -0.216,-3.3 0,-3.3 0.216,-3.3 0.645,-3.244 1.063,-3.132 1.463,-2.966 1.837,-2.75 2.18,-2.486 2.486,-2.181 2.75,-1.837 2.966,-1.463 3.132,-1.063 3.244,-0.645 3.3,-0.216 3.3,0 3.3,0.216 3.244,0.645 3.132,1.063 2.966,1.463 2.75,1.837 2.486,2.181 2.181,2.486 1.837,2.75 1.463,2.966 1.063,3.132 0.645,3.244 0.216,3.3
Bottom Layer:
  pour cut-out: 0,3.3 -0.216,3.3 -0.645,3.244 -1.063,3.132 -1.463,2.966 -1.837,2.75 -2.181,2.486 -2.486,2.181 -2.75,1.837 -2.966,1.463 -3.132,1.063 -3.244,0.645 -3.3,0.216 -3.3,0 -3.3,-0.216 -3.244,-0.645 -3.132,-1.063 -2.966,-1.463 -2.75,-1.837 -2.486,-2.181 -2.181,-2.486 -1.837,-2.75 -1.463,-2.966 -1.063,-3.132 -0.645,-3.244 -0.216,-3.3 0,-3.3 0.216,-3.3 0.645,-3.244 1.063,-3.132 1.463,-2.966 1.837,-2.75 2.18,-2.486 2.486,-2.181 2.75,-1.837 2.966,-1.463 3.132,-1.063 3.244,-0.645 3.3,-0.216 3.3,0 3.3,0.216 3.244,0.645 3.132,1.063 2.966,1.463 2.75,1.837 2.486,2.181 2.181,2.486 1.837,2.75 1.463,2.966 1.063,3.132 0.645,3.244 0.216,3.3
Top Overlay:
  lines w0.4: -2.994,-0.802 cw(c0,0) -2.994,0.802 ; -2.685,-1.55 ccw(c0,0) -1.55,-2.685 ; -2.685,1.55 cw(c0,0) -1.55,2.685 ; -0.802,-2.994 ccw(c0,0) 0.802,-2.994 ; -0.802,2.994 cw(c0,0) 0.802,2.994 ; 1.55,-2.685 ccw(c0,0) 2.685,-1.55 ; 1.55,2.685 cw(c0,0) 2.685,1.55 ; 2.994,-0.802 ccw(c0,0) 2.994,0.802
3D body "screw_iso7046-1-m3_5x5-4_8-h.stp": height 2.7, standoff -2.3, extent -3.65,-3.65 3.65,3.65

## Screw-Flth-M3 [mm] "Screw, hole diameter 3.2mm, PanHead 6mm"
pads (1):
  round 6 / inner round 3.5 / far side round 6 hole 3.2 mask+0.1: 1(0,0)
via 0,2.4 diameter 0.8 hole 0.5
via 0,-2.4 diameter 0.8 hole 0.5
via 1.697,-1.697 diameter 0.8 hole 0.5
via -1.697,1.697 diameter 0.8 hole 0.5
via 2.4,0 diameter 0.8 hole 0.5
via -2.4,0 diameter 0.8 hole 0.5
via 1.697,1.697 diameter 0.8 hole 0.5
via -1.697,-1.697 diameter 0.8 hole 0.5
Top Layer:
  pour cut-out: 0,3.5 -0.229,3.5 -0.684,3.44 -1.127,3.321 -1.551,3.146 -1.949,2.916 -2.313,2.637 -2.637,2.313 -2.916,1.949 -3.146,1.551 -3.321,1.127 -3.44,0.684 -3.5,0.229 -3.5,0 -3.5,-0.229 -3.44,-0.684 -3.321,-1.127 -3.146,-1.551 -2.916,-1.949 -2.637,-2.313 -2.313,-2.637 -1.949,-2.916 -1.551,-3.146 -1.127,-3.321 -0.684,-3.44 -0.229,-3.5 0,-3.5 0.229,-3.5 0.684,-3.44 1.127,-3.321 1.551,-3.146 1.949,-2.916 2.313,-2.637 2.637,-2.313 2.916,-1.949 3.146,-1.551 3.321,-1.127 3.44,-0.684 3.5,-0.229 3.5,0 3.5,0.229 3.44,0.684 3.321,1.127 3.146,1.551 2.916,1.949 2.637,2.313 2.313,2.637 1.949,2.916 1.551,3.146 1.127,3.321 0.684,3.44 0.229,3.5
Bottom Layer:
  pour cut-out: 0,3.5 -0.229,3.5 -0.684,3.44 -1.127,3.321 -1.551,3.146 -1.949,2.916 -2.313,2.637 -2.637,2.313 -2.916,1.949 -3.146,1.551 -3.321,1.127 -3.44,0.684 -3.5,0.229 -3.5,0 -3.5,-0.229 -3.44,-0.684 -3.321,-1.127 -3.146,-1.551 -2.916,-1.949 -2.637,-2.313 -2.313,-2.637 -1.949,-2.916 -1.551,-3.146 -1.127,-3.321 -0.684,-3.44 -0.229,-3.5 0,-3.5 0.229,-3.5 0.684,-3.44 1.127,-3.321 1.551,-3.146 1.949,-2.916 2.313,-2.637 2.637,-2.313 2.916,-1.949 3.146,-1.551 3.321,-1.127 3.44,-0.684 3.5,-0.229 3.5,0 3.5,0.229 3.44,0.684 3.321,1.127 3.146,1.551 2.916,1.949 2.637,2.313 2.313,2.637 1.949,2.916 1.551,3.146 1.127,3.321 0.684,3.44 0.229,3.5
Top Overlay:
  lines w0.4: -3.188,-0.854 cw(c0,0) -3.188,0.854 ; -2.858,-1.65 ccw(c0,0) -1.65,-2.858 ; -2.858,1.65 cw(c0,0) -1.65,2.858 ; -0.854,-3.188 ccw(c0,0) 0.854,-3.188 ; -0.854,3.188 cw(c0,0) 0.854,3.188 ; 1.65,-2.858 ccw(c0,0) 2.858,-1.65 ; 1.65,2.858 cw(c0,0) 2.858,1.65 ; 3.188,-0.854 ccw(c0,0) 3.188,0.854
3D body "t1crfchms_unf_no__5_44_0_125_0_125.stp": height 1.7, standoff -1.48, extent -2.73,-2.73 2.731,2.731

## Screw-Flth-M3-wopad [mm] "Screw, hole diameter 3.2mm, PanHead 0mm"
pads (1):
  round 0 hole 3.2 unplated mask+0.1: 1(0,0)
Top Layer:
  pour cut-out: 0,3.5 -0.229,3.5 -0.684,3.44 -1.127,3.321 -1.551,3.146 -1.949,2.916 -2.313,2.637 -2.637,2.313 -2.916,1.949 -3.146,1.551 -3.321,1.127 -3.44,0.684 -3.5,0.229 -3.5,0 -3.5,-0.229 -3.44,-0.684 -3.321,-1.127 -3.146,-1.551 -2.916,-1.949 -2.637,-2.313 -2.313,-2.637 -1.949,-2.916 -1.551,-3.146 -1.127,-3.321 -0.684,-3.44 -0.229,-3.5 0,-3.5 0.229,-3.5 0.684,-3.44 1.127,-3.321 1.551,-3.146 1.949,-2.916 2.313,-2.637 2.637,-2.313 2.916,-1.949 3.146,-1.551 3.321,-1.127 3.44,-0.684 3.5,-0.229 3.5,0 3.5,0.229 3.44,0.684 3.321,1.127 3.146,1.551 2.916,1.949 2.637,2.313 2.313,2.637 1.949,2.916 1.551,3.146 1.127,3.321 0.684,3.44 0.229,3.5
Bottom Layer:
  pour cut-out: 0,3.5 -0.229,3.5 -0.684,3.44 -1.127,3.321 -1.551,3.146 -1.949,2.916 -2.313,2.637 -2.637,2.313 -2.916,1.949 -3.146,1.551 -3.321,1.127 -3.44,0.684 -3.5,0.229 -3.5,0 -3.5,-0.229 -3.44,-0.684 -3.321,-1.127 -3.146,-1.551 -2.916,-1.949 -2.637,-2.313 -2.313,-2.637 -1.949,-2.916 -1.551,-3.146 -1.127,-3.321 -0.684,-3.44 -0.229,-3.5 0,-3.5 0.229,-3.5 0.684,-3.44 1.127,-3.321 1.551,-3.146 1.949,-2.916 2.313,-2.637 2.637,-2.313 2.916,-1.949 3.146,-1.551 3.321,-1.127 3.44,-0.684 3.5,-0.229 3.5,0 3.5,0.229 3.44,0.684 3.321,1.127 3.146,1.551 2.916,1.949 2.637,2.313 2.313,2.637 1.949,2.916 1.551,3.146 1.127,3.321 0.684,3.44 0.229,3.5
Top Overlay:
  lines w0.4: -3.188,-0.854 cw(c0,0) -3.188,0.854 ; -2.858,-1.65 ccw(c0,0) -1.65,-2.858 ; -2.858,1.65 cw(c0,0) -1.65,2.858 ; -0.854,-3.188 ccw(c0,0) 0.854,-3.188 ; -0.854,3.188 cw(c0,0) 0.854,3.188 ; 1.65,-2.858 ccw(c0,0) 2.858,-1.65 ; 1.65,2.858 cw(c0,0) 2.858,1.65 ; 3.188,-0.854 ccw(c0,0) 3.188,0.854
3D body "t1crfchms_unf_no__5_44_0_125_0_125.stp": height 1.7, standoff -1.48, extent -2.73,-2.73 2.731,2.731